# EAGLE library part AVRXDA28 (library microchip-special)
The AVR128DA28/32/48/64 microcontrollers of the AVR® DA family are using the AVR CPU with hardware multiplier, running at up to 24 MHz, with 128 KB of Flash, 16 KB of SRAM, and 512B of EEPROM in 28-, 32-, 48- or 64-pin packages. The AVR® DA family uses the latest technologies from Microchip Technology, with a flexible and low-power architecture including Event System, intelligent analog features, advanced digital peripherals and Peripheral Touch Controller (PTC).
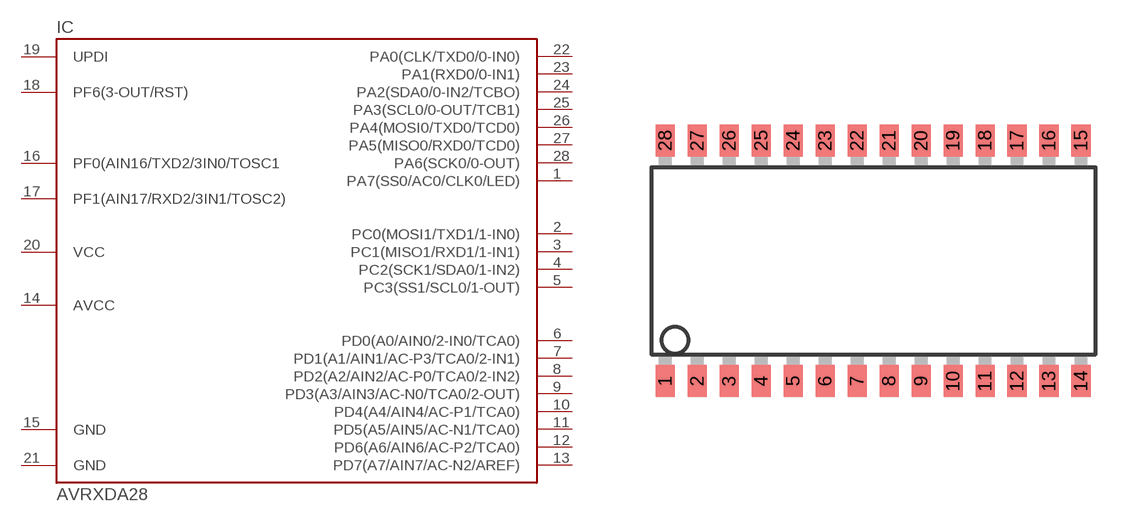
[diagram p21: symbol with the pads of SO28W; footprint SO28W]

Designator prefix IC

## AVRXDA28  [SO28W]
1  PA7(SS0/AC0/CLK0/LED)
2  PC0(MOSI1/TXD1/1-IN0)
3  PC1(MISO1/RXD1/1-IN1)
4  PC2(SCK1/SDA0/1-IN2)
5  PC3(SS1/SCL0/1-OUT)
6  PD0(A0/AIN0/2-IN0/TCA0)
7  PD1(A1/AIN1/AC-P3/TCA0/2-IN1)
8  PD2(A2/AIN2/AC-P0/TCA0/2-IN2)
9  PD3(A3/AIN3/AC-N0/TCA0/2-OUT)
10  PD4(A4/AIN4/AC-P1/TCA0)
11  PD5(A5/AIN5/AC-N1/TCA0)
12  PD6(A6/AIN6/AC-P2/TCA0)
13  PD7(A7/AIN7/AC-N2/AREF)
14  AVCC  pas
15  GND  pwr
16  PF0(AIN16/TXD2/3IN0/TOSC1
17  PF1(AIN17/RXD2/3IN1/TOSC2)
18  PF6(3-OUT/RST)
19  UPDI
20  VCC  pwr
21  GND  pwr
22  PA0(CLK/TXD0/0-IN0)
23  PA1(RXD0/0-IN1)
24  PA2(SDA0/0-IN2/TCBO)
25  PA3(SCL0/0-OUT/TCB1)
26  PA4(MOSI0/TXD0/TCD0)
27  PA5(MISO0/RXD0/TCD0)
28  PA6(SCK0/0-OUT)

## Footprint SO28W (pad centres in mm)
28-Lead Plastic Small Outline (SO) Wide, 300 mil Body (SOIC) Source: http://ww1.microchip.com/downloads/en/devicedoc/39632c.pdf
smd 0.762 x 1.27: 1 -7.62,-4.78; 2 -6.35,-4.78; 3 -5.08,-4.78; 4 -3.81,-4.78; 5 -2.54,-4.78; 6 -1.27,-4.78; 7 0,-4.78; 8 1.27,-4.78; 9 2.54,-4.78; 10 3.81,-4.78; 11 5.08,-4.78; 12 6.35,-4.78; 13 7.62,-4.78; 14 8.89,-4.78; 15 8.89,4.78; 16 7.62,4.78; 17 6.35,4.78; 18 5.08,4.78; 19 3.81,4.78; 20 2.54,4.78; 21 1.27,4.78; 22 0,4.78; 23 -1.27,4.78; 24 -2.54,4.78; 25 -3.81,4.78; 26 -5.08,4.78; 27 -6.35,4.78; 28 -7.62,4.78